# Altium schematic symbol library 200241-1222.SchLib: 1 symbol
Pins are listed as number, name and electrical type; pins without a type are passive.

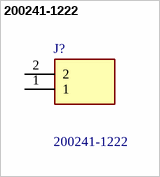
[diagram p0: symbol 200241-1222]

## 200241-1222
designator J?
MEGAFIT R/A TOP LATCH ASSY 15G 2CKT BLK ROHS COMPLIANT: YES; Manufacturer_Name: Molex; Geometry.Height: 11.35mm; Mouser Part Number: 538-200241-1222; Mouser Price/Stock: https://www.mouser.co.uk/ProductDetail/Molex/200241-1222?qs=PzGy0jfpSMvrXQ27oECKZA%3D%3D; Manufacturer_Part_Number: 200241-1222; Datasheet Link: *
footprint 2002411222
pins: 1, 2